# Altium footprint library PcbLib1.PcbLib: 18 footprints (part 1 of 2)
Each footprint in its own frame and in the unit in brackets; x right, y up, seen from the top. Pads: shape width x height; smd on the part's side, far side on the other; paste and mask are expansions set on the pad; w line width, h text height; cw(c..) or ccw(c..) is an arc to the next point about the centre after c.
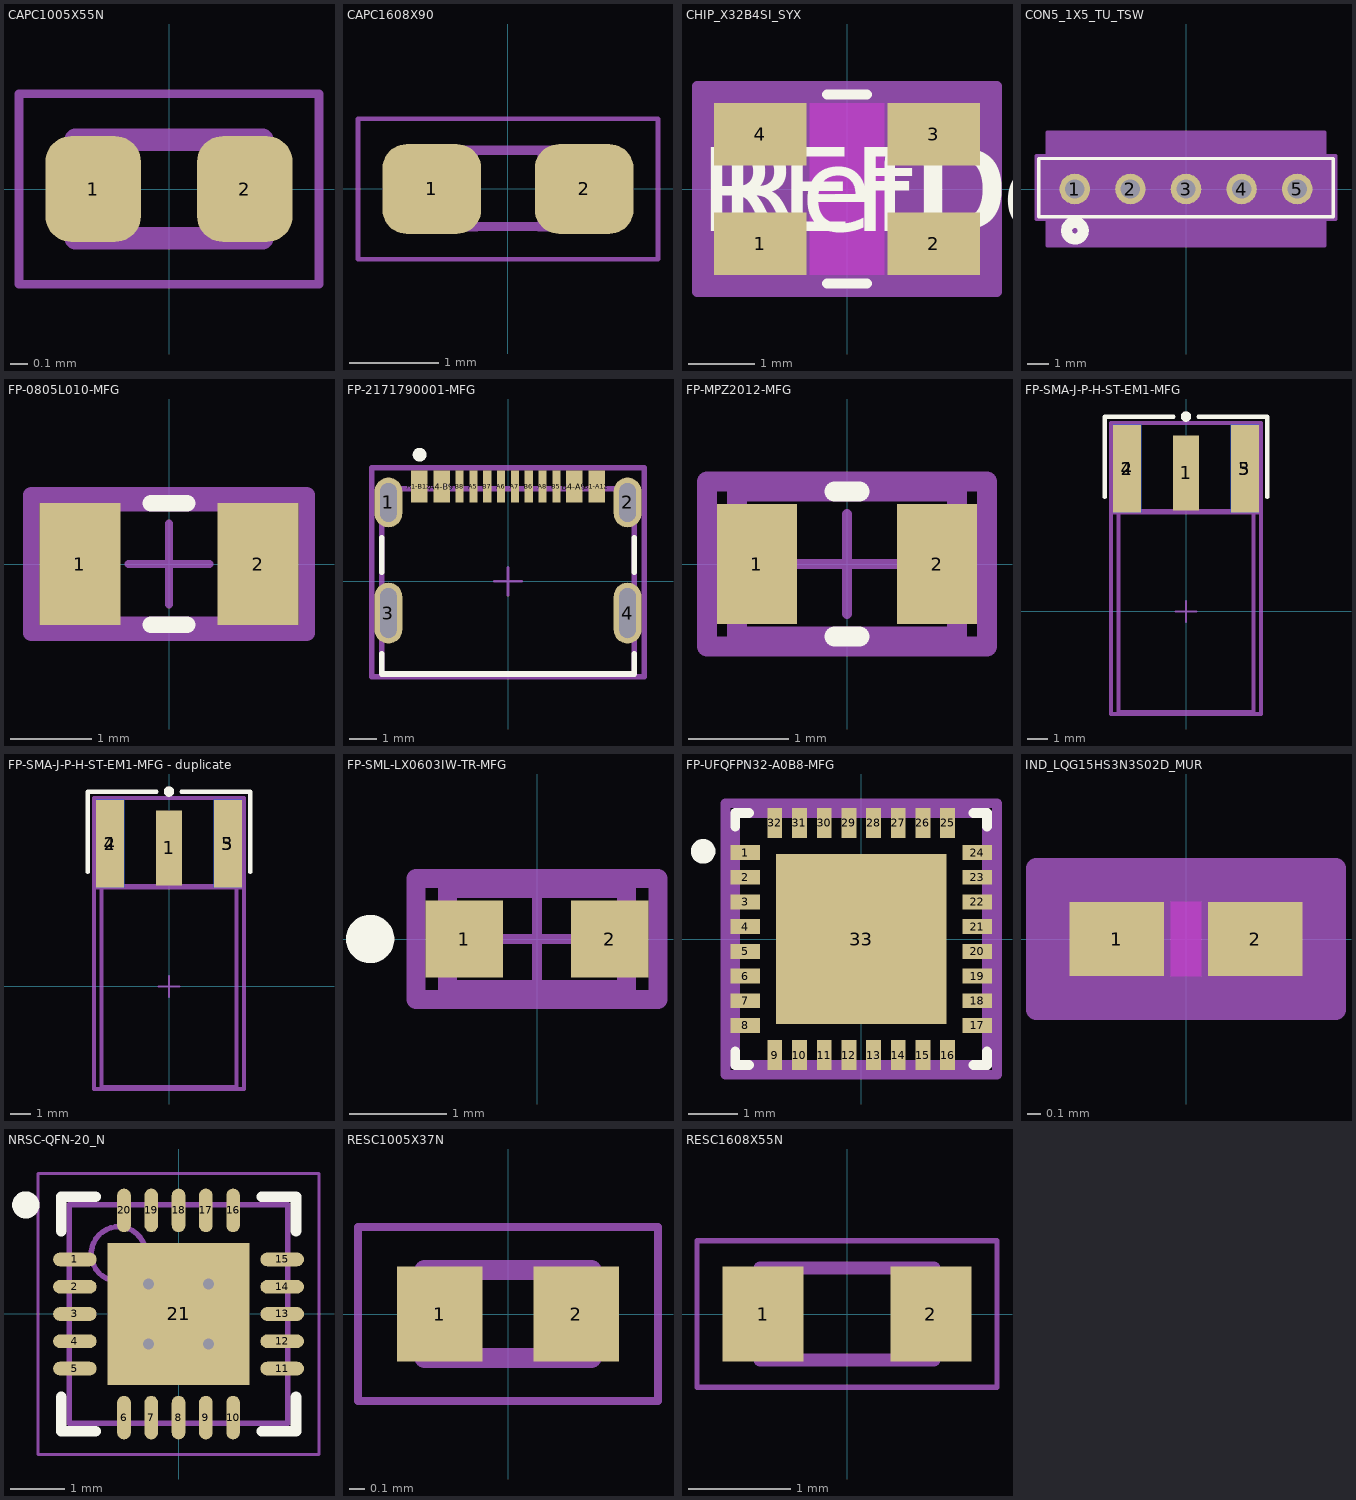
[diagram p0: the footprints below, top view; thin cyan lines are the x and y axes]

## CAPC1005X55N [mm]
pads (2):
  rrect53% 0.54x0.6 smd paste+0 mask+0.102: 1(-0.43,0) 2(0.43,0)
Top 3D Body:
  lines w0.127: -0.53,-0.28 -0.53,0.28 0.53,0.28 0.53,-0.28 -0.53,-0.28
Top Courtyard:
  lines w0.05: -0.85,-0.54 -0.85,0.54 0.85,0.54 0.85,-0.54 -0.85,-0.54
3D body "step_temp.STEP": height 0.55, standoff 0, extent -0.5,-0.25 0.5,0.25

## CAPC1608X90 [mm]
pads (2):
  rrect53% 1.1x1 smd: 1(-0.85,0) 2(0.85,0)
Top 3D Body:
  region: -0.338,-0.47 -0.839,-0.47 -0.839,0.48 -0.338,0.48
  region: 0.83,-0.471 0.331,-0.471 0.331,0.48 0.83,0.48
  lines w0.102: -0.356,-0.419 0.356,-0.419 ; -0.356,0.432 0.356,0.432
Top Courtyard:
  lines w0.051: -1.673,-0.783 1.673,-0.783 1.673,0.783 -1.673,0.783 -1.673,-0.783
3D body "step_temp.STEP": height 0.9, standoff 0, extent -0.8,-0.4 0.8,0.4

## CHIP_X32B4SI_SYX [mil]
pads (4):
  rect 55x37 smd paste+0 mask+0: 1(-51.5,-32.48) 2(51.5,-32.48) 3(51.5,32.48) 4(-51.5,32.48)
Top Layer keep-out:
  region: -22,-49 -22,49 22,49 22,-49
Top Overlay:
  lines w6: -11.9,-56 11.9,-56 ; -11.9,56 11.9,56
  text "RefDes" at -75,-25 h50
  text "REFDES" at -87.5,-25 h50
Keep-Out Layer:
  region: -22,-51 -22,51 22,51 22,-51
Top 3D Body:
  lines w1: -65,-51 65,-51 65,51 -65,51 -65,-51 ; -65,-18.5 -65,18.5 -24,18.5 -24,-18.5 -65,-18.5 ; 24,-18.5 24,18.5 65,18.5 65,-18.5 24,-18.5
  text "RefDes2" at -87.5,-25 h50
Top Courtyard:
  region: 89,-60.98 -89,-60.98 -89,60.98 89,60.98
  lines w6: -89,-60.98 -89,60.98 89,60.98 89,-60.98 -89,-60.98
3D body "CHIP_X32B4SI_SYX.step": height 32.01, standoff 0, extent -65,-51.97 65,51.97

## CON5_1X5_TU_TSW [mil]
pads (5):
  round 55 hole 35 paste-27.5 mask+0: 1(-200,0) 2(-100,0) 3(0,0) 4(100,0) 5(200,0)
Top Overlay:
  circle w20: c-200,-75 r15
  lines w6: -265,-50 -265,55 265,55 265,-50 -265,-50
  text ".Designator" at -137.5,-25 h50
Bottom Overlay:
  circle w20: c-200,-75 r15
Top 3D Body:
  circle w1: c-200,0 r10
  lines w1: -260,-45 -260,50 260,50 260,-45 -260,-45
  text ".Designator" at -137.5,-25 h50
Top Courtyard:
  region: 270,60 250,60 250,102 -250,102 -250,60 -270,60 -270,-55 -250,-55 -250,-102 250,-102 250,-55 270,-55
  lines w6: -270,-55 -250,-55 -250,-102 250,-102 250,-55 270,-55 270,60 250,60 250,102 -250,102 -250,60 -270,60 -270,-55
3D body "CON5_1X5_TU_TSW.step": height 500, standoff -200, extent -250,-50 250,50

## FP-0805L010-MFG [mm]
pads (2):
  rect 1x1.5 smd paste+0 mask+0: 1(-1.1,0) 2(1.1,0)
Top Overlay:
  lines w0.2: -0.225,-0.75 0.225,-0.75 ; -0.225,0.75 0.225,0.75
Top Assembly:
  lines w0.2: -1.7,-0.85 1.7,-0.85 1.7,0.85 -1.7,0.85 -1.7,-0.85
  text ".Designator" at 0,0.188 h1
Top 3D Body:
  lines w0.2: -1.1,-0.75 1.1,-0.75 1.1,0.75 -1.1,0.75 -1.1,-0.75
Top Courtyard:
  lines w0.2: -1.7,-0.85 1.7,-0.85 1.7,0.85 -1.7,0.85 -1.7,-0.85
Top Component Center:
  lines w0.1: -0.5,0 0.5,0 ; 0,-0.5 0,0.5
3D body "Fuse_Littelfuse_0805L010YR_eec.STEP": height 0.25, standoff 0, extent -1.7,-0.85 1.7,0.85

## FP-2171790001-MFG [mm]
pads (16):
  rrect100% 1x1.8 hole 1.4 slot 0.6 at 0 deg paste-1000 mask+0: 1(-4.32,2.85) 2(4.32,2.85)
  rrect100% 1x2.2 hole 1.8 slot 0.6 at 0 deg paste-1000 mask+0: 3(-4.32,-1.15) 4(4.32,-1.15)
  rect 0.6x1.15 smd paste+0 mask+0: A1-B12(-3.2,3.425) A4-B9(-2.4,3.425) B1-A12(3.2,3.425) B4-A9(2.4,3.425)
  rect 0.3x1.15 smd paste+0 mask+0: A5(-1.25,3.425) A6(-0.25,3.425) A7(0.25,3.425) A8(1.25,3.425) B5(1.75,3.425) B6(0.75,3.425) B7(-0.75,3.425) B8(-1.75,3.425)
Top Overlay:
  circle w0.25: c-3.195,4.575 r0.125
  lines w0.2: -4.57,-2.625 -4.57,-3.35 4.57,-3.35 4.57,-2.625 ; -4.57,0.325 -4.57,1.575 ; 4.57,0.325 4.57,1.575
Top Assembly:
  lines w0.2: -4.92,-3.45 4.92,-3.45 4.92,4.1 -4.92,4.1 -4.92,-3.45
  text ".Designator" at 0,0.513 h1
Top 3D Body:
  lines w0.2: -4.57,-3.35 4.57,-3.35 4.57,3.35 -4.57,3.35 -4.57,-3.35
Top Courtyard:
  lines w0.2: -4.92,-3.45 4.92,-3.45 4.92,4.1 -4.92,4.1 -4.92,-3.45
Top Component Center:
  lines w0.1: -0.5,0 0.5,0 ; 0,-0.5 0,0.5
3D body "Conn_Molex_2171790001_eec.STEP": height 0.25, standoff 0, extent -4.92,-3.45 4.92,4.1

## FP-MPZ2012-MFG [mm]
pads (2):
  rect 0.8x1.2 smd paste+0 mask+0: 1(-0.9,0) 2(0.9,0)
Top Overlay:
  lines w0.2: -0.125,-0.725 0.125,-0.725 ; -0.125,0.725 0.125,0.725
Top Assembly:
  lines w0.2: -1.4,-0.825 1.4,-0.825 1.4,0.825 -1.4,0.825 -1.4,-0.825
  text ".Designator" at 0,0.188 h1
Top 3D Body:
  lines w0.2: -1.1,-0.725 1.1,-0.725 1.1,0.725 -1.1,0.725 -1.1,-0.725
Top Courtyard:
  lines w0.2: -1.4,-0.825 1.4,-0.825 1.4,0.825 -1.4,0.825 -1.4,-0.825
Top Component Center:
  lines w0.1: -0.5,0 0.5,0 ; 0,-0.5 0,0.5
3D body "FBead_TDK_MPZ2012S101ATD25_eec.STEP": height 0.25, standoff 0, extent -1.4,-0.825 1.4,0.825

## FP-SMA-J-P-H-ST-EM1-MFG [mm]
pads (5):
  rect 1.27x3.6 smd paste+0 mask+0: 1(0,6.66)
  rect 1.35x4.2 smd paste+0 mask+0: 2(-2.825,6.86) 3(2.825,6.86)
  rect 1.35x4.2 smd far side paste+0 mask+0: 4(-2.825,6.86) 5(2.825,6.86)
Top Overlay:
  circle w0.25: c0,9.36 r0.125
  lines w0.2: -3.9,5.5 -3.9,9.35 -0.6,9.35 ; 0.6,9.35 3.9,9.35 3.9,5.5
Top Assembly:
  lines w0.2: -3.6,-4.925 -3.6,9.06 3.6,9.06 3.6,-4.925 -3.6,-4.925
  text ".Designator" at 0,2.255 h1
Top 3D Body:
  lines w0.2: -3.6,4.76 3.6,4.76 ; -3.24,-4.825 -3.24,4.825 3.24,4.825 3.24,-4.825 -3.24,-4.825
Top Courtyard:
  lines w0.2: -3.6,-4.925 -3.6,9.06 3.6,9.06 3.6,-4.925 -3.6,-4.925
Top Component Center:
  lines w0.1: -0.5,0 0.5,0 ; 0,-0.5 0,0.5
3D body "Conn_Samtec_SMA-J-P-H-ST-EM1_eec.STEP": height 0.25, standoff 0, extent -3.6,-4.925 3.6,9.06

## FP-SMA-J-P-H-ST-EM1-MFG - duplicate [mm]
pads (5):
  rect 1.27x3.6 smd paste+0 mask+0: 1(0,6.66)
  rect 1.35x4.2 smd paste+0 mask+0: 2(-2.825,6.86) 3(2.825,6.86)
  rect 1.35x4.2 smd far side paste+0 mask+0: 4(-2.825,6.86) 5(2.825,6.86)
Top Overlay:
  circle w0.25: c0,9.36 r0.125
  lines w0.2: -3.9,5.5 -3.9,9.35 -0.6,9.35 ; 0.6,9.35 3.9,9.35 3.9,5.5
Top Assembly:
  lines w0.2: -3.6,-4.925 -3.6,9.06 3.6,9.06 3.6,-4.925 -3.6,-4.925
  text ".Designator" at 0,2.255 h1
Top 3D Body:
  lines w0.2: -3.6,4.76 3.6,4.76 ; -3.24,-4.825 -3.24,4.825 3.24,4.825 3.24,-4.825 -3.24,-4.825
Top Courtyard:
  lines w0.2: -3.6,-4.925 -3.6,9.06 3.6,9.06 3.6,-4.925 -3.6,-4.925
Top Component Center:
  lines w0.1: -0.5,0 0.5,0 ; 0,-0.5 0,0.5
3D body "Conn_Samtec_SMA-J-P-H-ST-EM1_eec.STEP": height 0.25, standoff 0, extent -3.6,-4.925 3.6,9.06

## FP-SML-LX0603IW-TR-MFG [mm]
pads (2):
  rect 0.8x0.8 smd paste+0 mask+0: 1(-0.75,0) 2(0.75,0)
Top Overlay:
  circle w0.25: c-1.725,0 r0.125
Top Assembly:
  lines w0.2: -1.25,-0.625 1.25,-0.625 1.25,0.625 -1.25,0.625 -1.25,-0.625
  text ".Designator" at 0,-0.001 h1
Top 3D Body:
  lines w0.2: -0.925,-0.525 0.925,-0.525 0.925,0.525 -0.925,0.525 -0.925,-0.525
Top Courtyard:
  lines w0.2: -1.25,-0.625 1.25,-0.625 1.25,0.625 -1.25,0.625 -1.25,-0.625
Top Component Center:
  lines w0.1: -0.5,0 0.5,0 ; 0,-0.5 0,0.5
3D body "Diode_Lumex_SML-LX0603IW-TR_eec.STEP": height 0.25, standoff 0, extent -1.25,-0.625 1.25,0.625

## FP-UFQFPN32-A0B8-MFG [mm]
pads (33):
  rect 0.6x0.3 smd paste+0 mask+0: 1(-2.35,1.75) 2(-2.35,1.25) 3(-2.35,0.75) 4(-2.35,0.25) 5(-2.35,-0.25) 6(-2.35,-0.75) 7(-2.35,-1.25) 8(-2.35,-1.75) 17(2.35,-1.75) 18(2.35,-1.25) 19(2.35,-0.75) 20(2.35,-0.25) 21(2.35,0.25) 22(2.35,0.75) 23(2.35,1.25) 24(2.35,1.75)
  rect 0.3x0.6 smd paste+0 mask+0: 9(-1.75,-2.35) 10(-1.25,-2.35) 11(-0.75,-2.35) 12(-0.25,-2.35) 13(0.25,-2.35) 14(0.75,-2.35) 15(1.25,-2.35) 16(1.75,-2.35) 25(1.75,2.35) 26(1.25,2.35) 27(0.75,2.35) 28(0.25,2.35) 29(-0.25,2.35) 30(-0.75,2.35) 31(-1.25,2.35) 32(-1.75,2.35)
  rect 3.45x3.45 smd paste+0 mask+0: 33(0,0)
Top Overlay:
  circle w0.25: c-3.2,1.775 r0.125
  lines w0.2: -2.55,-2.275 -2.55,-2.55 -2.275,-2.55 ; -2.55,2.275 -2.55,2.55 -2.275,2.55 ; 2.275,-2.55 2.55,-2.55 2.55,-2.275 ; 2.275,2.55 2.55,2.55 2.55,2.275
Top Assembly:
  lines w0.2: -2.75,-2.75 2.75,-2.75 2.75,2.75 -2.75,2.75 -2.75,-2.75
  text ".Designator" at 0,0.188 h1
Top 3D Body:
  lines w0.2: -2.55,-2.55 2.55,-2.55 2.55,2.55 -2.55,2.55 -2.55,-2.55
Top Courtyard:
  lines w0.2: -2.75,-2.75 2.75,-2.75 2.75,2.75 -2.75,2.75 -2.75,-2.75
Top Component Center:
  lines w0.1: -0.5,0 0.5,0 ; 0,-0.5 0,0.5
3D body "IC_STMicroelectronics_STM32L432KBU6_eec.STEP": height 0.25, standoff 0, extent -2.75,-2.75 2.75,2.75

## IND_LQG15HS3N3S02D_MUR [mil]
pads (2):
  rect 28x22 smd paste+0 mask+0: 1(-20.5,0) 2(20.5,0)
Top Layer keep-out:
  region: -4.5,-9 -4.5,9 4.5,9 4.5,-9
Top Overlay:
  text ".Designator" at -137.5,-25 h50
Keep-Out Layer:
  region: -4.5,-11 -4.5,11 4.5,11 4.5,-11
Top 3D Body:
  lines w1: -20.5,-11 -20.5,11 ; -20.5,-11 20.5,-11 ; -20.5,-11 -6.5,-11 -6.5,11 -20.5,11 ; -20.5,-11 -20.5,11 ; -20.5,11 20.5,11 ; 20.5,-11 20.5,11 ; 20.5,-11 20.5,11 ; 20.5,-11 6.5,-11 6.5,11 20.5,11
  text ".Designator" at -137.5,-25 h50
Top Courtyard:
  region: 44.5,-21 -44.5,-21 -44.5,21 44.5,21
  lines w6: -44.5,-21 44.5,-21 44.5,21 -44.5,21 -44.5,-21
3D body "IND_LQG15HS3N3S02D_MUR.step": height 22.01, standoff 0, extent -20.51,-10.98 20.51,10.98

## NRSC-QFN-20_N [mm] "QFN, 20-Leads, Body 4x4mm, Pitch 0.5mm, Thermal Pad 2.6x2.6mm, IPC Medium Density"
height 0.95
pads (21):
  oval 0.8x0.25 smd: 1(-1.9,1) 2(-1.9,0.5) 3(-1.9,0) 4(-1.9,-0.5) 5(-1.9,-1) 11(1.9,-1) 12(1.9,-0.5) 13(1.9,0) 14(1.9,0.5) 15(1.9,1)
  oval 0.25x0.8 smd: 6(-1,-1.9) 7(-0.5,-1.9) 8(0,-1.9) 9(0.5,-1.9) 10(1,-1.9) 16(1,1.9) 17(0.5,1.9) 18(0,1.9) 19(-0.5,1.9) 20(-1,1.9)
  rect 2.6x2.6 smd: 21(0,0)
via -0.55,0.55 diameter 0.5 hole 0.2
via 0.55,0.55 diameter 0.5 hole 0.2
via -0.55,-0.55 diameter 0.5 hole 0.2
via 0.55,-0.55 diameter 0.5 hole 0.2
Top Overlay:
  circle w0.25: c-2.8,2 r0.125
  lines w0.2: -2.15,-1.525 -2.15,-2.15 -1.525,-2.15 ; -2.15,1.525 -2.15,2.15 -1.525,2.15 ; 1.525,-2.15 2.15,-2.15 2.15,-1.525 ; 1.525,2.15 2.15,2.15 2.15,1.525
Top 3D Body:
  circle w0.1: c-1.1,1.1 r0.5
  lines w0.1: -2,-2 -2,2 2,2 2,-2 -2,-2
Top Courtyard:
  lines w0.05: -2.575,-2.575 -2.575,2.575 2.575,2.575 2.575,-2.575 -2.575,-2.575
  lines w0.1: -0.5,0 0.5,0 ; 0,-0.5 0,0.5
3D body "QFN50P400X400X95_HS-21N.step": height 0.95, standoff 0, extent -2.001,-2.001 2.001,2.001

## PCBComponent_1 [mm]

## RESC1005X37N [mm]
pads (2):
  rect 0.54x0.6 smd paste+0 mask+0.102: 1(-0.432,0) 2(0.432,0)
Top 3D Body:
  lines w0.127: -0.53,-0.28 0.53,-0.28 0.53,0.28 -0.53,0.28 -0.53,-0.28
Top Courtyard:
  lines w0.05: -0.95,-0.55 0.95,-0.55 0.95,0.55 -0.95,0.55 -0.95,-0.55
3D body "step_temp.STEP": height 0.37, standoff 0, extent -0.5,-0.25 0.5,0.25

## RESC1608X55N [mm]
pads (2):
  rect 0.79x0.93 smd paste+0 mask+0.102: 1(-0.82,0) 2(0.82,0)
Top 3D Body:
  lines w0.127: -0.85,-0.45 -0.85,0.45 0.85,0.45 0.85,-0.45 -0.85,-0.45
Top Courtyard:
  lines w0.05: -1.465,-0.715 -1.465,0.715 1.465,0.715 1.465,-0.715 -1.465,-0.715
3D body "step_temp.STEP": height 0.55, standoff 0, extent -0.8,-0.4 0.8,0.4